# EAGLE library part SSD1306 (library ArduinoBASIC)
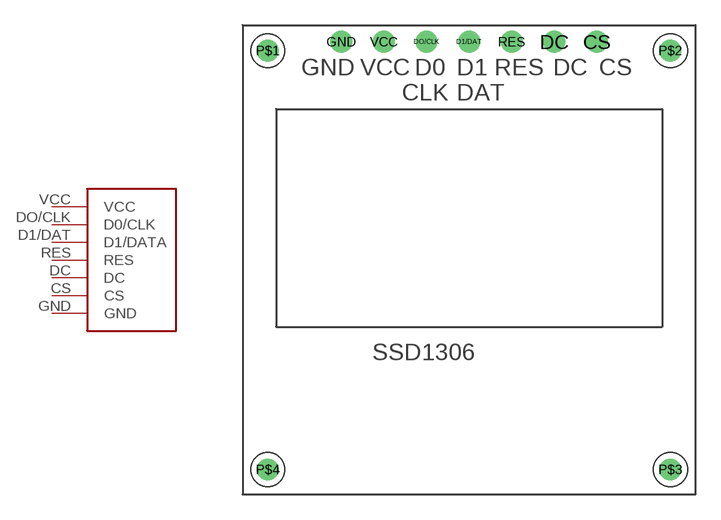
[diagram p0: symbol with the pads of SSD1306_0.96; footprint SSD1306_0.96]

Designator prefix -

## SSD1306  [SSD1306_0.96]
CS  CS
D1/DAT  D1/DATA
DC  DC
DO/CLK  D0/CLK
GND  GND
RES  RES
VCC  VCC

## Footprint SSD1306_0.96 (pad centres in mm)
drill 0.8: CS 7.62,10.12; D1/DAT 0,10.12; DC 5.08,10.12; DO/CLK -2.54,10.12; GND -7.62,10.12; P$1 -12,9.6; P$2 12,9.6; P$3 12,-15.4; P$4 -12,-15.4; RES 2.54,10.12; VCC -5.08,10.12